# Altium footprint library PcbLib1.PcbLib: 36 footprints (part 3 of 3)
Each footprint in its own frame and in the unit in brackets; x right, y up, seen from the top. Pads: shape width x height; smd on the part's side, far side on the other; paste and mask are expansions set on the pad; w line width, h text height; cw(c..) or ccw(c..) is an arc to the next point about the centre after c.
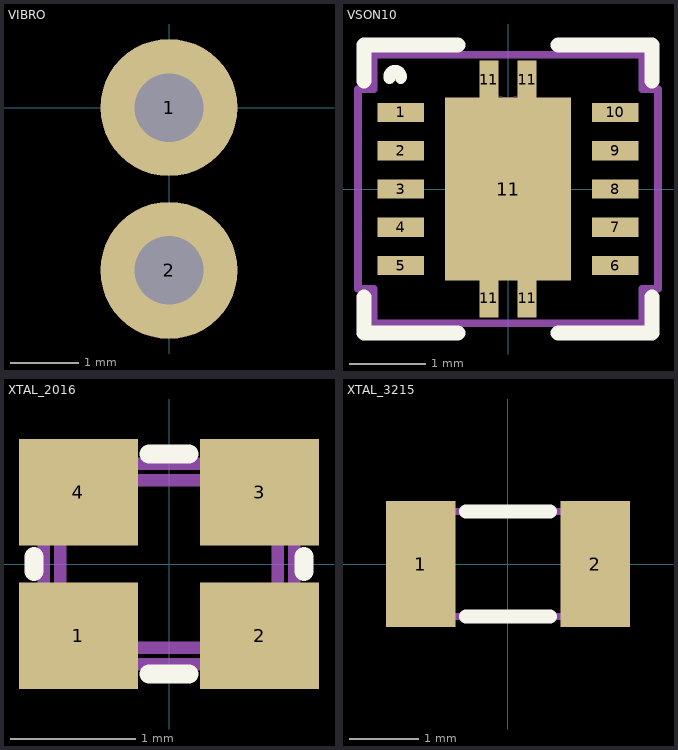
[diagram p2: the footprints below, top view; thin cyan lines are the x and y axes]

## VIBRO [mm]
pads (2):
  round 2 hole 1: 1(0,0) 2(0,-2.375)

## VSON10 [mm]
pads (15):
  rect 0.61x0.25 smd: 1(-1.4,1) 2(-1.4,0.5) 3(-1.4,0) 4(-1.4,-0.5) 5(-1.4,-1) 6(1.4,-1) 7(1.4,-0.5) 8(1.4,0) 9(1.4,0.5) 10(1.4,1)
  rect 0.25x0.5 smd: 11(-0.25,-1.425) 11(-0.25,1.425) 11(0.25,-1.425) 11(0.25,1.425)
  rect 1.651x2.388 smd: 11(0,0)
Top Layer:
  region: 0,1.194
  region: 0,-1.194
Top Overlay:
  lines w0.152: -1.548,1.45 cw(c-1.474,1.469) -1.4,1.45
  lines w0.2: -1.88,-1.41 -1.88,-1.88 -0.657,-1.88 ; -1.88,1.41 -1.88,1.88 -0.657,1.88 ; 0.657,-1.88 1.88,-1.88 1.88,-1.41 ; 0.657,1.88 1.88,1.88 1.88,1.41
Top Solder:
  region: 0,1.194
  region: 0,-1.194
Mechanical 13:
  lines w0: -0.305,1.499 ccw(c0,1.499) 0.305,1.499
Mechanical 15:
  lines w0.1: -0.375,0 0.375,0 ; 0,-0.375 0,0.375 ; -1.959,-1.301 -1.959,1.301 -1.753,1.301 -1.753,1.753 1.753,1.753 1.753,1.301 1.959,1.301 1.959,-1.301 1.753,-1.301 1.753,-1.753 -1.753,-1.753 -1.753,-1.301 -1.959,-1.301
Mechanical 16:
  circle w0: c0,-0.95 r0.102
  circle w0: c-0.575,0 r0.102
  circle w0: c0,0.95 r0.102
  circle w0: c0.575,0 r0.102
3D body "TPS259271DRCT--3DModel-STEP-56544.STEP": height 0.97, standoff -0.03, extent -1.5,-1.5 1.5,1.5

## XTAL_2016 [mm]
pads (4):
  rect 0.95x0.85 smd: 1(-0.725,-0.575) 2(0.725,-0.575) 3(0.725,0.575) 4(-0.725,0.575)
Top Overlay:
  lines w0.152: -1.08,-0.06 -1.08,0.06 ; -0.16,-0.88 0.16,-0.88 ; -0.16,0.88 0.16,0.88 ; 1.08,-0.06 1.08,0.06
Mechanical 15:
  lines w0.1: -1,-0.7 cw(c-1,-0.8) -0.9,-0.8 0.9,-0.8 cw(c1,-0.8) 1,-0.7 1,0.7 cw(c1,0.8) 0.9,0.8 -0.9,0.8 cw(c-1,0.8) -1,0.7 -1,-0.7 ; -0.87,-0.57 ccw(c-0.77,-0.57) -0.77,-0.67 0.77,-0.67 ccw(c0.77,-0.57) 0.87,-0.57 0.87,0.57 ccw(c0.77,0.57) 0.77,0.67 -0.77,0.67 ccw(c-0.77,0.57) -0.87,0.57 -0.87,-0.57
3D body: height 0.56, standoff 0.15, extent -0.7,-0.65 0.7,0.65
3D body "User Library-GeyerElectronics_KX5.step": height 0.56, standoff 0, extent -1.05,-0.85 1.05,0.85

## XTAL_3215 [mm]
pads (2):
  rect 1x1.8 smd: 1(-1.25,0) 2(1.25,0)
Top Overlay:
  lines w0.2: -0.6,-0.75 0.6,-0.75 ; -0.6,0.75 0.6,0.75
Mechanical 15:
  lines w0.1: -1.6,-0.55 cw(c-1.6,-0.75) -1.4,-0.75 1.4,-0.75 cw(c1.6,-0.75) 1.6,-0.55 1.6,0.55 cw(c1.6,0.75) 1.4,0.75 -1.4,0.75 cw(c-1.6,0.75) -1.6,0.55 -1.6,-0.55
3D body: height 0.81, standoff 0.15, extent -1.2,-0.6 1.2,0.6
3D body "User Library-Siward_SX3215.step": height 0.81, standoff 0, extent -1.6,-0.75 1.6,0.75